# Altium footprint library LED_3mm_GREEN.PcbLib: 1 footprints
Each footprint in its own frame and in the unit in brackets; x right, y up, seen from the top. Pads: shape width x height; smd on the part's side, far side on the other; paste and mask are expansions set on the pad; w line width, h text height; cw(c..) or ccw(c..) is an arc to the next point about the centre after c.
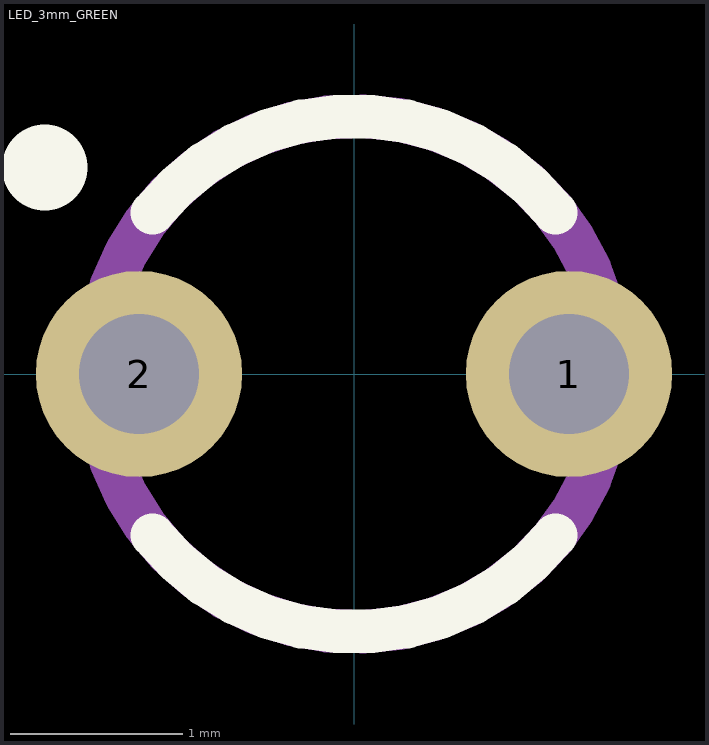
[diagram p0: the footprint, top view; thin cyan lines are the x and y axes]

## LED_3mm_GREEN [mm]
pads (2):
  round 1.2 hole 0.7: 1(1.25,0) 2(-1.25,0)
Top Overlay:
  lines w0.254: -1.171,-0.937 ccw(c0,0) 1.171,-0.937 ; -1.171,0.937 cw(c0,0) 1.171,0.937
  lines w0.5: -1.8,1.2 -1.8,1.2
TopAssy:
  circle w0.254: c0,0 r1.5
3D body "everlight-3MM-LED-GREEN.step": height 7.64, standoff -4.93, extent -1.9,-1.9 1.526,1.9